# Altium schematic symbol library RES,1k,5%,0.063W,0402.Schlib: 1 symbol
Pins are listed as number, name and electrical type; pins without a type are passive.

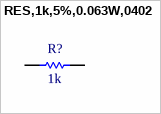
[diagram p0: symbol RES,1k,5%,0.063W,0402]

## RES,1k,5%,0.063W,0402
designator R?, comment 1k
1 kOhms ±5% 0.063W, 1/16W Chip Resistor 0402 (1005 Metric) Automotive AEC-Q200 Thick Film
pins: 1, 2